# EAGLE library part MICROCON6 (library components)
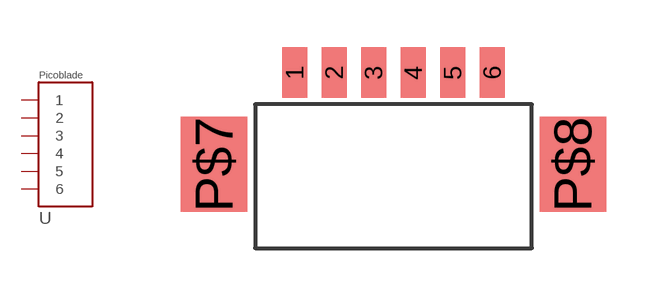
[diagram p8: symbol with the pads of MICROCON6; footprint MICROCON6]

Designator prefix -

## MICROCON6  [MICROCON6]
1  1
2  2
3  3
4  4
5  5
6  6

## Footprint MICROCON6 (pad centres in mm)
smd 0.8 x 1.6: 1 -2.5,0; 2 -1.25,0; 3 0,0; 4 1.25,0; 5 2.5,0; 6 3.75,0
smd 2.1 x 3: P$7 -5.05,-2.9; P$8 6.3,-2.9